# EAGLE library part MCP23S17-E_SP (library MCP23S17-E_SP)
Microchip MCP23S17-E/SO, 16-channel 16bit I/O Expander 5MHz, Serial-SPI, 28-Pin SOIC Source: Datasheet <https://datasheet.datasheetarchive.com/originals/distributors/SFDatasheet-4/sf-00090057.pdf>
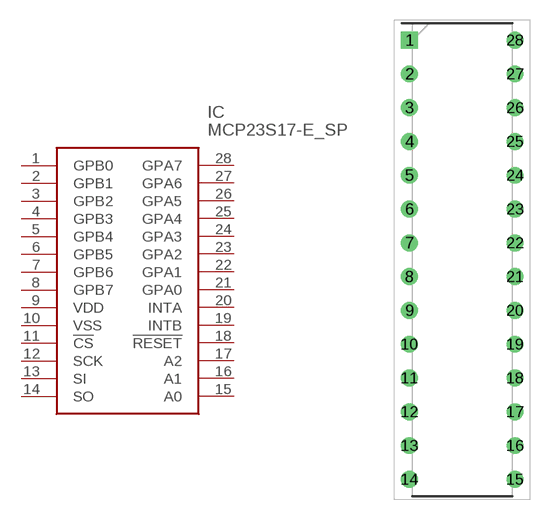
[diagram p0: symbol with the pads of DIP794W56P254L3486H508Q28N; footprint DIP794W56P254L3486H508Q28N]

Designator prefix IC

## MCP23S17-E_SP (Arrow_Part_Number: MCP23S17-E/SP; Arrow_Price-Stock: https://www.arrow.com/en/products/mcp23s17-esp/microchip-technology?utm_currency=USD&region=europe; Description: Microchip MCP23S17-E/SO, 16-channel 16bit I/O Expander 5MHz, Serial-SPI, 28-Pin SOIC; Height: 5.08mm; Manufacturer_Name: Microchip; Manufacturer_Part_Number: MCP23S17-E/SP; Mouser_Part_Number: 579-MCP23S17-E/SP; Mouser_Price-Stock: https://www.mouser.co.uk/ProductDetail/Microchip-Technology/MCP23S17-E-SP?qs=usxtMOJb1RyzobAZrBjFZA%3D%3D)  [DIP794W56P254L3486H508Q28N]
1  GPB0
2  GPB1
3  GPB2
4  GPB3
5  GPB4
6  GPB5
7  GPB6
8  GPB7
9  VDD
10  VSS
11  !CS
12  SCK
13  SI
14  SO
15  A0
16  A1
17  A2
18  !RESET
19  INTB
20  INTA
21  GPA0
22  GPA1
23  GPA2
24  GPA3
25  GPA4
26  GPA5
27  GPA6
28  GPA7

## Footprint DIP794W56P254L3486H508Q28N (pad centres in mm)
28-(SP -300MIL) [SPDIP]
drill 0.759 pad 1.159 square: 1 -3.969,16.51
drill 0.759 pad 1.159: 2 -3.969,13.97; 3 -3.969,11.43; 4 -3.969,8.89; 5 -3.969,6.35; 6 -3.969,3.81; 7 -3.969,1.27; 8 -3.969,-1.27; 9 -3.969,-3.81; 10 -3.969,-6.35; 11 -3.969,-8.89; 12 -3.969,-11.43; 13 -3.969,-13.97; 14 -3.969,-16.51; 15 3.969,-16.51; 16 3.969,-13.97; 17 3.969,-11.43; 18 3.969,-8.89; 19 3.969,-6.35; 20 3.969,-3.81; 21 3.969,-1.27; 22 3.969,1.27; 23 3.969,3.81; 24 3.969,6.35; 25 3.969,8.89; 26 3.969,11.43; 27 3.969,13.97; 28 3.969,16.51